# Altium footprint library mcu_prog_and_debug_connectors.PcbLib: 1 footprints
Each footprint in its own frame and in the unit in brackets; x right, y up, seen from the top. Pads: shape width x height; smd on the part's side, far side on the other; paste and mask are expansions set on the pad; w line width, h text height; cw(c..) or ccw(c..) is an arc to the next point about the centre after c.
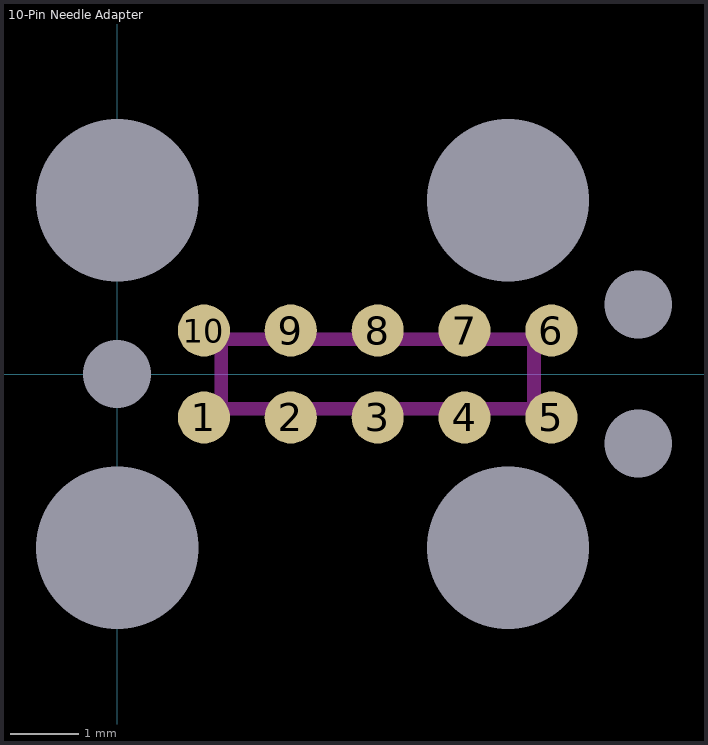
[diagram p0: the footprint, top view; thin cyan lines are the x and y axes]

## 10-Pin Needle Adapter [mil]
pads (17):
  round 30 smd: 1(50,-25) 2(100,-25) 3(150,-25) 4(200,-25) 5(250,-25) 6(250,25) 7(200,25) 8(150,25) 9(100,25) 10(50,25)
  round 0 hole 39: 11(0,0) 12(300,40) 13(300,-40)
  round 0 hole 93.5: 14(0,100) 15(0,-100) 16(225,100) 17(225,-100)
Keep-Out Layer:
  lines w7.87: 60,-20 240,-20 240,20 60,20 60,-20